# EAGLE library part CY26049?X*-36 (library CY26049)
CY26049-36 FailSafe PLL Clock Generator 3.3v, 10-60MHz
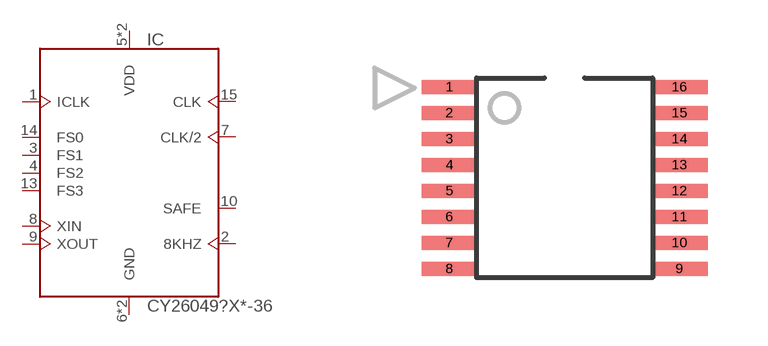
[diagram p0: symbol with the pads of TSSOP-16; footprint TSSOP-16]

Designator prefix IC

## CY26049ZXC-36 (MF: Cypress Semiconductor; MPN: CY26049ZXC-36), CY26049ZXI-36 (MF: Cypress Semiconductor; MPN: CY26049ZXI-36)  [TSSOP-16]
1  ICLK  in
2  8KHZ  out
3  FS1  in
4  FS2  in
5  VDD  pwr
6  GND  pwr
7  CLK/2  out
8  XIN  in
9  XOUT  out
10  SAFE  out
11  GND  pwr
12  VDD  pwr
13  FS3  in
14  FS0  in
15  CLK  out

## Footprint TSSOP-16 (pad centres in mm)
smd 1.4 x 0.35: 1 -2.875,2.275; 2 -2.875,1.625; 3 -2.875,0.975; 4 -2.875,0.325; 5 -2.875,-0.325; 6 -2.875,-0.975; 7 -2.875,-1.625; 8 -2.875,-2.275; 9 2.875,-2.275; 10 2.875,-1.625; 11 2.875,-0.975; 12 2.875,-0.325; 13 2.875,0.325; 14 2.875,0.975; 15 2.875,1.625; 16 2.875,2.275